# EAGLE library part WIRL-POSI_2614011037000 (library WE_WIRL_Rev13.0)
Erinome-I GNSS Module - BeiDou, Galileo, GPS, GLONASS. WIRL-POSI GNSS Module - RF Pad connection to external antenna Details see: https://we-online.de/katalog/en/article/2614011037000/
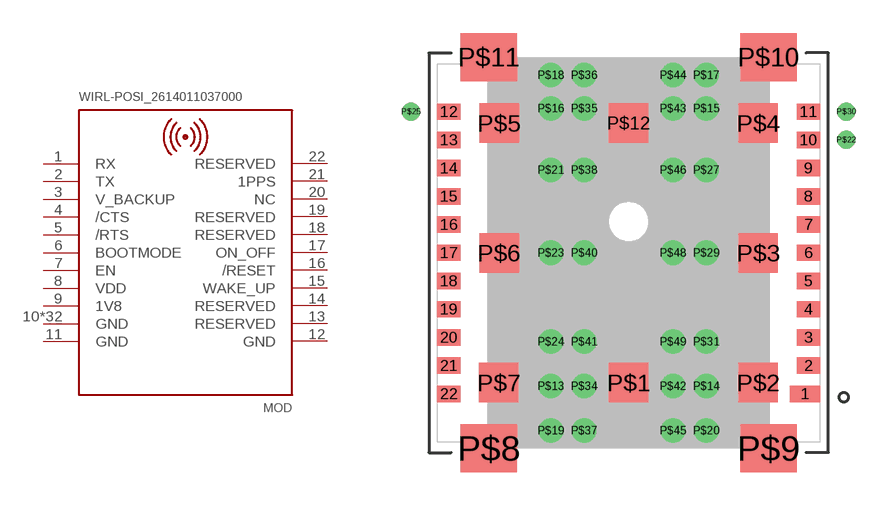
[diagram p29: symbol with the pads of WIRL-POSI_2614011037000; footprint WIRL-POSI_2614011037000]

Designator prefix MOD

## WIRL-POSI_2614011037000 (HEIGHT: 6.4mm; MANUFACTURER: Würth Elektronik; NR: 2614011037000)  [WIRL-POSI_2614011037000]
1  RX
2  TX
3  V_BACKUP
4  /CTS
5  /RTS
6  BOOTMODE
7  EN
8  VDD
9  1V8
10  GND
11  GND
12  GND
13  RESERVED
14  RESERVED
15  WAKE_UP
16  /RESET
17  ON_OFF
18  RESERVED
19  RESERVED
20  NC
21  1PPS
22  RESERVED
P$13  GND
P$14  GND
P$15  GND
P$16  GND
P$17  GND
P$18  GND
P$19  GND
P$20  GND
P$21  GND
P$22  GND
P$23  GND
P$24  GND
P$25  GND
P$27  GND
P$29  GND
P$30  GND
P$31  GND
P$34  GND
P$35  GND
P$36  GND
P$37  GND
P$38  GND
P$40  GND
P$41  GND
P$42  GND
P$43  GND
P$44  GND
P$45  GND
P$46  GND
P$48  GND
P$49  GND

## Footprint WIRL-POSI_2614011037000 (pad centres in mm)
Erinome-I GNSS Module - BeiDou, Galileo, GPS, GLONASS. WIRL-POSI GNSS Module - RF Pad connection to external antenna
smd 1.37 x 0.737: 1 7.95,-6.35
smd 1.07 x 0.737: 2 8.1,-5.08; 3 8.1,-3.81; 4 8.1,-2.54; 5 8.1,-1.27; 6 8.1,0; 7 8.1,1.27; 8 8.1,2.54; 9 8.1,3.81; 10 8.1,5.08; 11 8.1,6.35; 12 -8.1,6.35; 13 -8.1,5.08; 14 -8.1,3.81; 15 -8.1,2.54; 16 -8.1,1.27; 17 -8.1,0; 18 -8.1,-1.27; 19 -8.1,-2.54; 20 -8.1,-3.81; 21 -8.1,-5.08; 22 -8.1,-6.35
smd 1.778 x 1.778: P$1 0,-5.84; P$2 5.84,-5.84; P$3 5.84,0; P$4 5.84,5.84; P$5 -5.84,5.84; P$6 -5.84,0; P$7 -5.85,-5.84; P$12 0,5.84
smd 2.54 x 2.16: P$8 -6.3,-8.8; P$9 6.3,-8.8; P$10 6.3,8.8; P$11 -6.3,8.8
drill 0.6: P$13 -3.5,-6; P$14 3.5,-6; P$15 3.5,6.5; P$16 -3.5,6.5; P$17 3.5,8; P$18 -3.5,8; P$19 -3.5,-8; P$20 3.5,-8; P$21 -3.5,3.73; P$23 -3.5,0; P$24 -3.5,-4; P$27 3.5,3.73; P$29 3.5,0; P$31 3.5,-4; P$34 -2,-6; P$35 -2,6.5; P$36 -2,8; P$37 -2,-8; P$38 -2,3.73; P$40 -2,0; P$41 -2,-4; P$42 2,-6; P$43 2,6.5; P$44 2,8; P$45 2,-8; P$46 2,3.73; P$48 2,0; P$49 2,-4
drill 0.3: P$22 9.8,5.08; P$25 -9.8,6.35; P$30 9.8,6.35